# Altium footprint library LPC17xx_System_Pcb_AD.PcbLib: 25 footprints (part 1 of 2)
Each footprint in its own frame and in the unit in brackets; x right, y up, seen from the top. Pads: shape width x height; smd on the part's side, far side on the other; paste and mask are expansions set on the pad; w line width, h text height; cw(c..) or ccw(c..) is an arc to the next point about the centre after c.
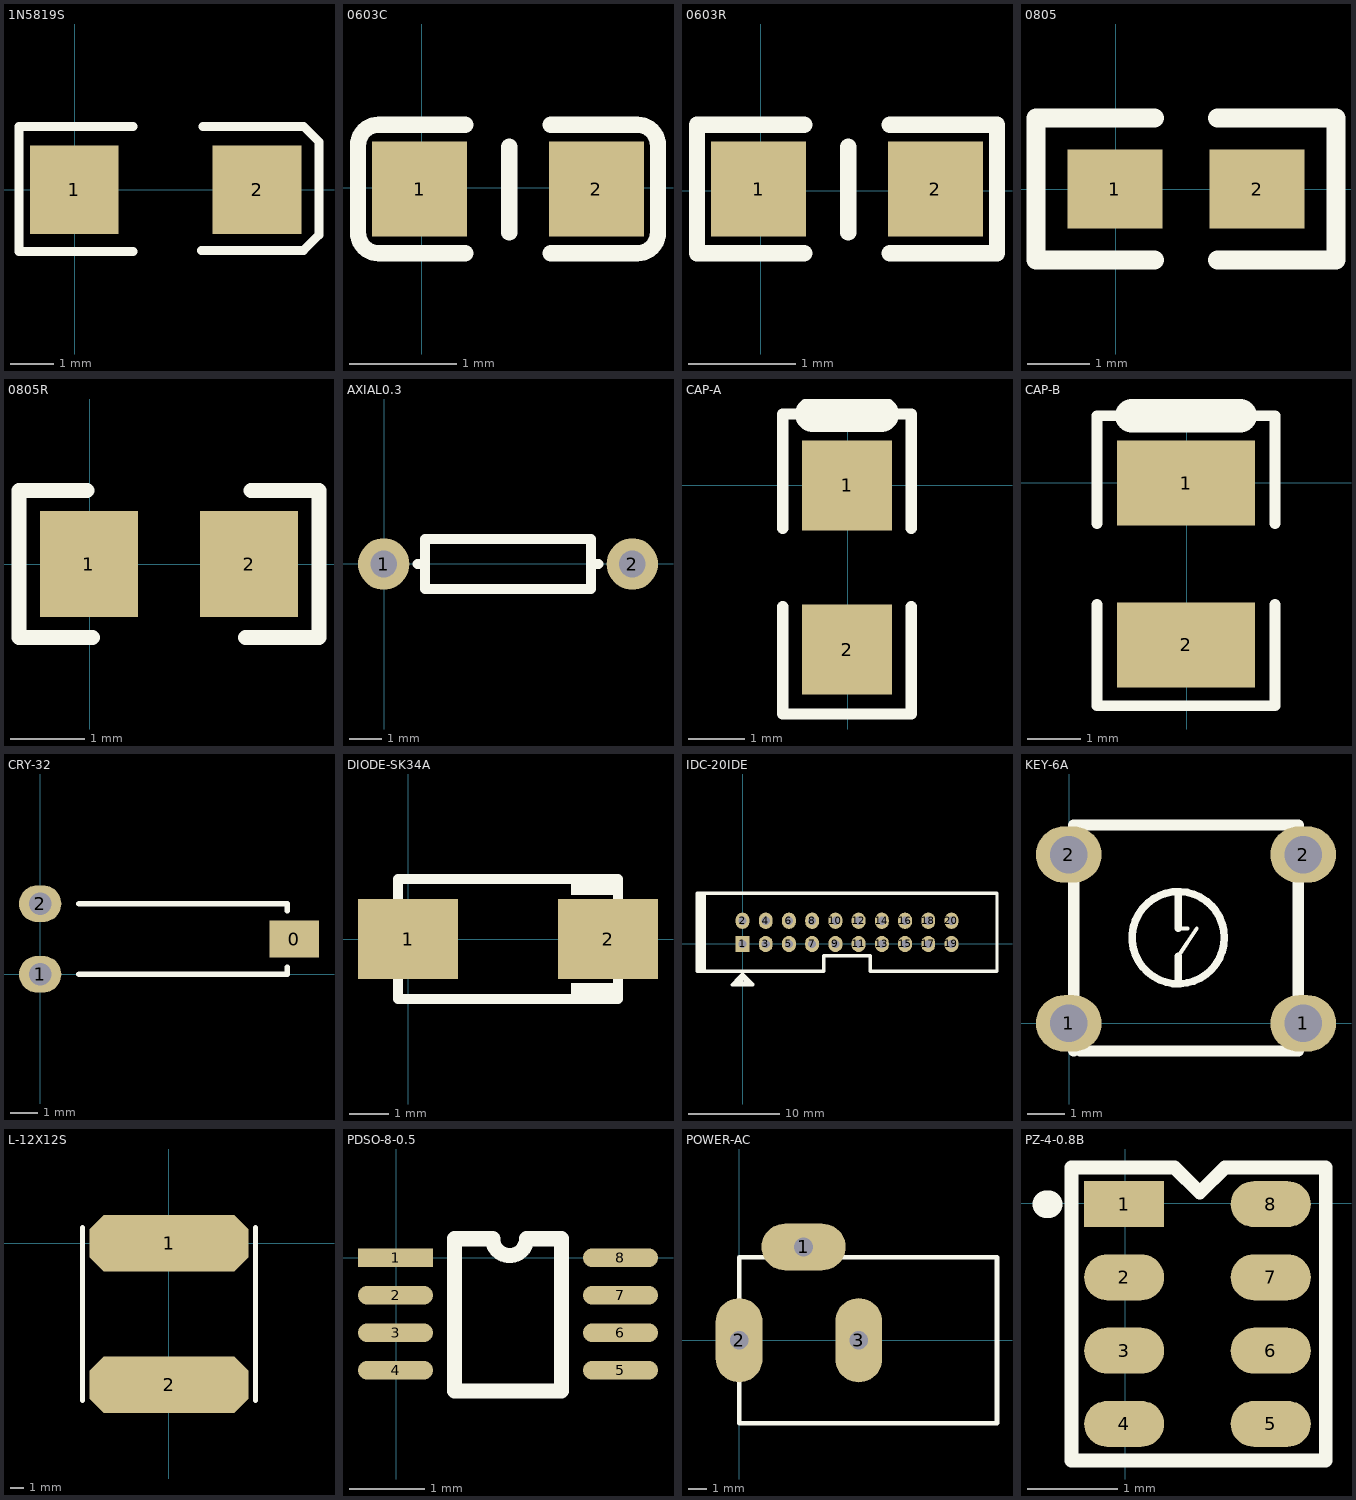
[diagram p0: the footprints below, top view; thin cyan lines are the x and y axes]

## 1N5819S [mil]
pads (2):
  rect 80x80 smd: 1(-0.4,0.15) 2(164.6,0.15)
TopOverlay:
  lines w8: 52.6,-55.85 -50.4,-55.85 -50.4,57.15 52.6,57.15 ; 114.6,-54.85 206.6,-54.85 220.6,-40.85 220.6,43.15 206.6,57.15 115.6,57.15

## 0603C [mil]
pads (2):
  rect 35x35 smd: 1(-0.77,-0.38) 2(64.23,-0.38)
TopOverlay:
  lines w6: 15.97,-24 -15.77,-24 cw(c-15.77,-16.38) -23.4,-16.38 -23.4,15.62 cw(c-15.77,15.62) -15.77,23.24 15.97,23.24 ; 32.23,-16.38 32.23,15.12 ; 47.48,-24 79.23,-24 ccw(c79.23,-16.38) 86.85,-16.38 86.85,15.62 ccw(c79.23,15.62) 79.23,23.24 47.48,23.24

## 0603R [mil]
pads (2):
  rect 35x35 smd: 1(-0.77,0.6) 2(64.23,0.6)
TopOverlay:
  lines w6: 15.97,-23.02 -23.4,-23.02 -23.4,24.22 15.97,24.22 ; 32.23,-15.4 32.23,16.1 ; 47.47,-23.02 86.84,-23.02 86.84,24.22 47.47,24.22

## 0805 [mil]
pads (2):
  rect 60x50 smd: 1(-0.4,0.18) 2(89.6,0.18)
TopOverlay:
  lines w12: 24.6,-44.82 -50.4,-44.82 -50.4,45.18 24.6,45.18 ; 64.6,-44.82 139.6,-44.82 139.6,45.18 64.6,45.18

## 0805R [mil]
pads (2):
  rect 52x56 smd: 1(-0.4,0.16) 2(84.6,0.16)
TopOverlay:
  lines w8: -1.4,39.16 -37.4,39.16 -37.4,-38.84 1.6,-38.84 ; 82.6,-38.84 121.6,-38.84 121.6,39.16 85.6,39.16

## AXIAL0.3 [mil]
pads (2):
  round 62 hole 32: 1(-0.4,-0.08) 2(299.6,-0.08)
TopOverlay:
  lines w12: 40.6,-0.08 49.6,-0.08 ; 258.6,-0.08 249.6,-0.08 ; 249.6,-0.08 249.6,29.92 49.6,29.92 49.6,-30.08 249.6,-30.08 249.6,-0.08

## CAP-A [mm]
pads (2):
  rect 1.6x1.6 smd: 1(-0.012,-0.004) 2(-0.012,-2.925)
TopOverlay:
  lines w0.2: -1.155,-2.163 -1.155,-4.068 1.131,-4.068 1.131,-2.163 ; -1.155,-0.766 -1.155,1.266 1.131,1.266 1.131,-0.766
  lines w0.635: -0.621,1.266 0.598,1.266

## CAP-B [mm]
pads (2):
  rect 2.6x1.6 smd: 1(-0.01,-0.009) 2(-0.01,-3.057)
TopOverlay:
  lines w0.2: -1.686,-2.295 -1.686,-4.2 1.666,-4.2 1.666,-2.295 ; -1.686,-0.771 -1.686,1.261 1.666,1.261 1.666,-0.771
  lines w0.635: -1.026,1.261 1.006,1.261

## CRY-32 [mil]
pads (3):
  rect 70x52 smd: 0(359.61,49.61)
  oval 60x52 hole 32: 1(-0.4,-0.39) 2(-0.4,99.61)
TopOverlay:
  lines w8: 54.6,-0.39 349.6,-0.39 349.6,9.61 ; 54.6,99.61 349.6,99.61 349.6,89.61

## DIODE-SK34A [mil]
pads (2):
  rect 100x80 smd: 1(-0.4,0.49) 2(199.6,0.49)
TopOverlay:
  rectangle: 162.6,44.49 209.6,60.49
  rectangle: 162.6,-59.51 209.6,-43.51
  lines w10: -10.4,-59.51 -10.4,60.49 209.6,60.49 209.6,-59.51 -10.4,-59.51

## IDC-20IDE [mil]
pads (20):
  rect 60x70 hole 35: 1(-0.4,-0.44)
  oval 60x70 hole 35: 2(-0.4,99.56) 3(99.6,-0.44) 4(99.6,99.56) 5(199.6,-0.44) 6(199.6,99.56) 7(299.6,-0.44) 8(299.6,99.56) 9(399.6,-0.44) 10(399.6,99.56) 11(499.6,-0.44) 12(499.6,99.56) 13(599.6,-0.44) 14(599.6,99.56) 15(699.6,-0.44) 16(699.6,99.56) 17(799.6,-0.44) 18(799.6,99.56) 19(899.6,-0.44) 20(899.6,99.56)
TopOverlay:
  lines w8: 349.6,-118.44 349.6,-50.44 ; 549.6,-118.44 549.6,-50.44
  lines w15: -185.4,-118.44 -185.4,217.56 ; -175.4,-118.44 -175.4,217.56 ; -165.4,-118.44 -165.4,217.56 ; -34.64,-164.68 -31.16,-164.68 -20.4,-175.44 ; -27.54,-157.58 -23.25,-157.58 -5.4,-175.44 ; -16.81,-146.85 -16.81,-149.02 9.6,-175.44 ; -9.72,-139.76 -6.07,-139.76 29.6,-175.44 ; -196.4,-118.44 -196.4,217.56 1095.6,217.56 1095.6,-118.44 549.6,-118.44 549.6,-50.44 349.6,-50.44 349.6,-118.44 -196.4,-118.44 ; -45.4,-175.44 -0.4,-130.44 44.6,-175.44 -45.4,-175.44

## KEY-6A [mil]
pads (4):
  oval 70x60 hole 40: 1(-0.4,-0.22) 1(249.6,-0.22) 2(-0.4,179.78) 2(249.6,179.78)
TopOverlay:
  circle w8: c116.34,91.17 r49.21
  lines w4: 116.34,71.48 136.02,101.01 ; 116.34,101.01 126.18,101.01
  lines w8: 116.34,41.96 116.34,71.48 ; 116.34,101.01 116.34,140.38
  lines w12: 4.92,-29.7 4.92,211.25 244.29,211.25 244.29,-29.7 11.81,-29.7

## L-12X12S [mil]
pads (2):
  oct 450x160 smd: 1(0.1,-0.45) 2(0.1,-400.45)
TopOverlay:
  lines w15: -244.9,-445.45 -244.9,44.55 ; 245.1,-445.45 245.1,44.55

## PDSO-8-0.5 [mm]
pads (8):
  rect 1x0.25 smd: 1(-0.01,0.003)
  oval 1x0.25 smd: 2(-0.01,-0.497) 3(-0.01,-0.997) 4(-0.01,-1.497) 5(2.99,-1.497) 6(2.99,-0.997) 7(2.99,-0.497) 8(2.99,0.003)
TopOverlay:
  lines w0.2: 0.777,0.257 0.777,-1.775 2.203,-1.775 2.203,0.257 ; 1.285,0.257 ccw(c1.511,0.257) 1.737,0.257
  lines w0.203: 0.777,0.257 1.285,0.257 ; 1.737,0.257 2.203,0.257

## POWER-AC [mil]
pads (3):
  oval 180x100 hole 40: 1(137.4,199.06)
  oval 100x180 hole 40: 2(-0.4,-0.31) 3(255.51,-0.31)
TopOverlay:
  lines w10: -18.88,-59.36 20.49,-59.36 20.49,58.75 -18.88,58.75 -18.88,-59.36 ; -0.4,-177.47 -0.4,176.86 550.79,176.86 550.79,-177.47 -0.4,-177.47 ; 78.34,176.86 78.34,216.23 196.45,216.23 196.45,176.86 78.34,176.86 ; 235.03,-59.73 274.4,-59.73 274.4,58.38 235.03,58.38 235.03,-59.73
Mechanical1:
  lines w10: -21.4,-60.94 -21.4,59.06 18.6,59.06 18.6,-60.94 -21.4,-60.94 ; 77.4,179.06 77.4,219.06 197.4,219.06 197.4,179.06 77.4,179.06 ; 236.6,-61.31 236.6,58.69 276.6,58.69 276.6,-61.31 236.6,-61.31

## PZ-4-0.8B [mil]
pads (8):
  rect 35x20 smd: 1(-0.4,-0.33)
  oval 35x20 smd: 2(-0.4,-32.33) 3(-0.4,-64.33) 4(-0.4,-96.33) 5(63.6,-96.33) 6(63.6,-64.33) 7(63.6,-32.33) 8(63.6,-0.33)
TopOverlay:
  lines w6: -23.4,-112.33 87.6,-112.33 87.6,15.67 43.6,15.67 32.6,4.67 21.6,15.67 -23.4,15.67 -23.4,-112.33
  lines w12: -34.4,-0.33 -33.4,-0.33